# EAGLE library part INA826AID (library INA826AID)
Check availability <https://pricing.snapeda.com/parts/INA826AID/Texas%20Instruments/view-part?ref=eda>
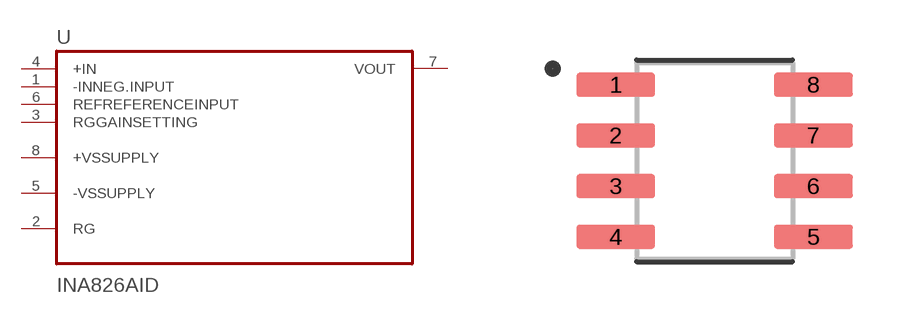
[diagram p0: symbol with the pads of SOIC127P599X175-8N; footprint SOIC127P599X175-8N]

Designator prefix U

## INA826AID (Availability: In Stock; Check_prices: https://www.snapeda.com/parts/INA826AID/Texas+Instruments/view-part/?ref=eda; Description: Precision, 200-μA Supply Current, 36-V Supply Instrumentation Amplifier; MF: Texas Instruments; MP: INA826AID; Package: SOIC-8 Texas Instruments; Price: None; Purchase-URL: https://www.snapeda.com/api/url_track_click_mouser/?unipart_id=217743&manufacturer=Texas Instruments&part_name=INA826AID&search_term=None; SnapEDA_Link: https://www.snapeda.com/parts/INA826AID/Texas+Instruments/view-part/?ref=snap)  [SOIC127P599X175-8N]
1  -INNEG.INPUT  in
2  RG
3  RGGAINSETTING  in
4  +IN  in
5  -VSSUPPLY
6  REFREFERENCEINPUT  in
7  VOUT  out
8  +VSSUPPLY

## Footprint SOIC127P599X175-8N (pad centres in mm)
smd 1.97 x 0.6: 1 -2.47,1.905; 2 -2.47,0.635; 3 -2.47,-0.635; 4 -2.47,-1.905; 5 2.47,-1.905; 6 2.47,-0.635; 7 2.47,0.635; 8 2.47,1.905